# Altium footprint library Res Pack.PcbLib: 1 footprints
Each footprint in its own frame and in the unit in brackets; x right, y up, seen from the top. Pads: shape width x height; smd on the part's side, far side on the other; paste and mask are expansions set on the pad; w line width, h text height; cw(c..) or ccw(c..) is an arc to the next point about the centre after c.
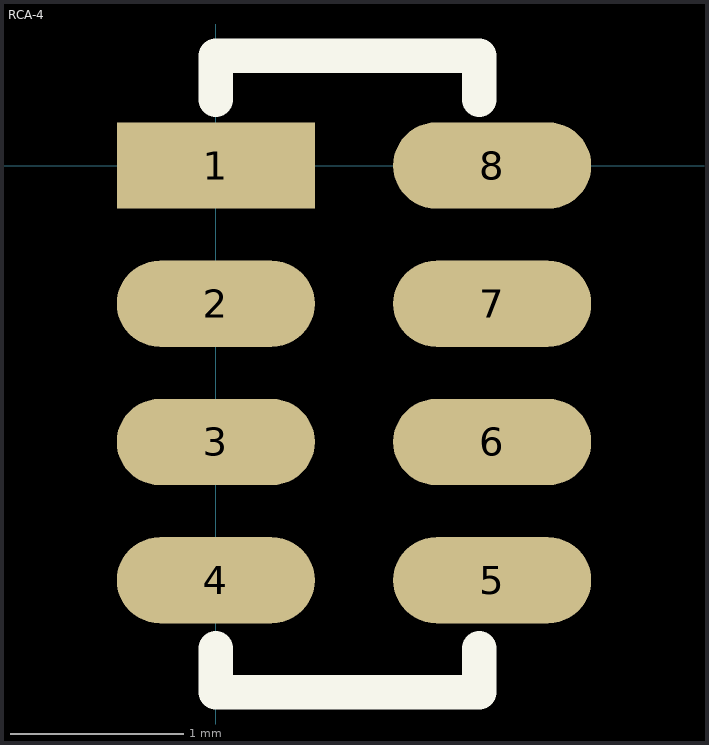
[diagram p0: the footprint, top view; thin cyan lines are the x and y axes]

## RCA-4 [mm]
pads (8):
  rect 1.146x0.5 smd: 1(0,0)
  oval 1.146x0.5 smd: 2(0,-0.8) 3(0,-1.6) 4(0,-2.4) 5(1.6,-2.4) 6(1.6,-1.6) 7(1.6,-0.8) 8(1.6,0)
Top Overlay:
  lines w0.2: 0,-2.794 0,-3.048 1.524,-3.048 1.524,-2.794 ; 0,0.381 0,0.635 1.524,0.635 1.524,0.381